# EAGLE library part RPI_COMPUTE_MODULE (library ICs)
Connector for the R Pi Compute Module, based on a DDR2 SO DIMM.
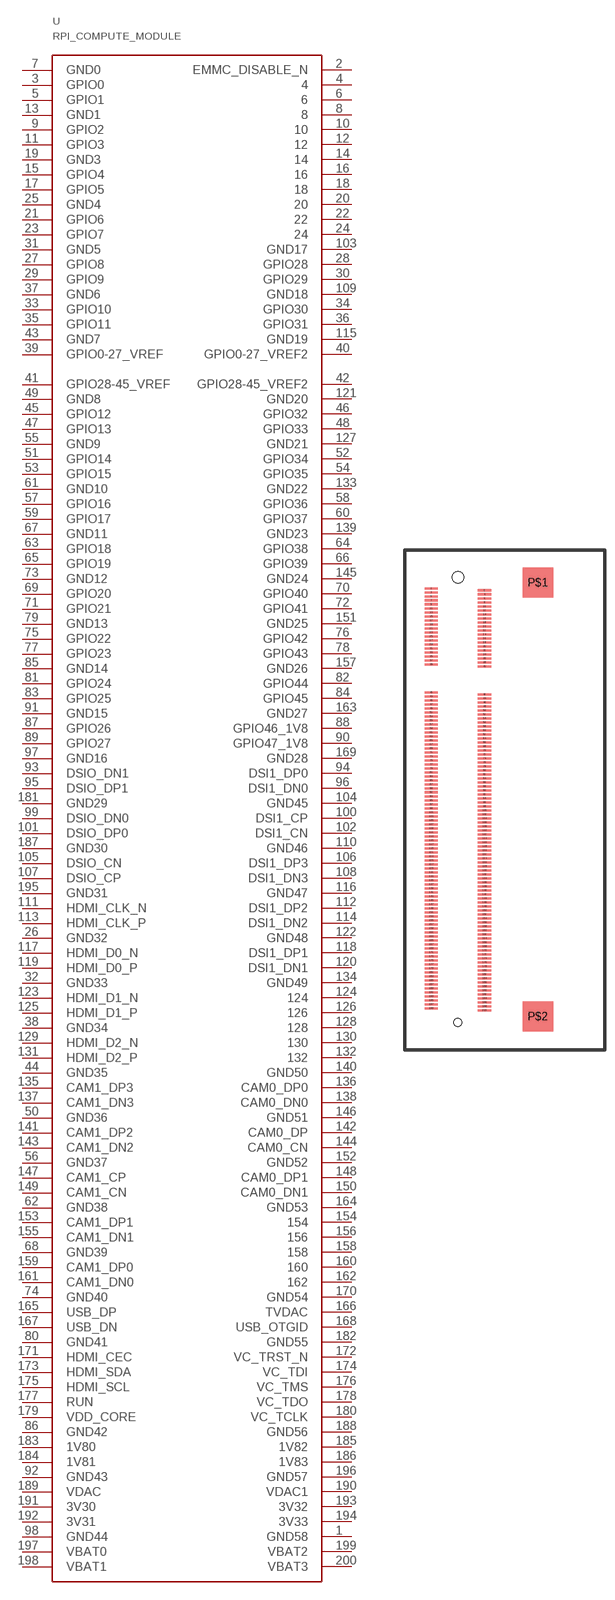
[diagram p29: symbol with the pads of TE_1473005-4; footprint TE_1473005-4]

Designator prefix U

## RPI_COMPUTE_MODULE  [TE_1473005-4]
1  GND58
2  EMMC_DISABLE_N
3  GPIO0
4  4
5  GPIO1
6  6
7  GND0
8  8
9  GPIO2
10  10
11  GPIO3
12  12
13  GND1
14  14
15  GPIO4
16  16
17  GPIO5
18  18
19  GND3
20  20
21  GPIO6
22  22
23  GPIO7
24  24
25  GND4
26  GND32
27  GPIO8
28  GPIO28
29  GPIO9
30  GPIO29
31  GND5
32  GND33
33  GPIO10
34  GPIO30
35  GPIO11
36  GPIO31
37  GND6
38  GND34
39  GPIO0-27_VREF
40  GPIO0-27_VREF2
41  GPIO28-45_VREF
42  GPIO28-45_VREF2
43  GND7
44  GND35
45  GPIO12
46  GPIO32
47  GPIO13
48  GPIO33
49  GND8
50  GND36
51  GPIO14
52  GPIO34
53  GPIO15
54  GPIO35
55  GND9
56  GND37
57  GPIO16
58  GPIO36
59  GPIO17
60  GPIO37
61  GND10
62  GND38
63  GPIO18
64  GPIO38
65  GPIO19
66  GPIO39
67  GND11
68  GND39
69  GPIO20
70  GPIO40
71  GPIO21
72  GPIO41
73  GND12
74  GND40
75  GPIO22
76  GPIO42
77  GPIO23
78  GPIO43
79  GND13
80  GND41
81  GPIO24
82  GPIO44
83  GPIO25
84  GPIO45
85  GND14
86  GND42
87  GPIO26
88  GPIO46_1V8
89  GPIO27
90  GPIO47_1V8
91  GND15
92  GND43
93  DSIO_DN1
94  DSI1_DP0
95  DSIO_DP1
96  DSI1_DN0
97  GND16
98  GND44
99  DSIO_DN0
100  DSI1_CP
101  DSIO_DP0
102  DSI1_CN
103  GND17
104  GND45
105  DSIO_CN
106  DSI1_DP3
107  DSIO_CP
108  DSI1_DN3
109  GND18
110  GND46
111  HDMI_CLK_N
112  DSI1_DP2
113  HDMI_CLK_P
114  DSI1_DN2
115  GND19
116  GND47
117  HDMI_D0_N
118  DSI1_DP1
119  HDMI_D0_P
120  DSI1_DN1
121  GND20
122  GND48
123  HDMI_D1_N
124  124
125  HDMI_D1_P
126  126
127  GND21
128  128
129  HDMI_D2_N
130  130
131  HDMI_D2_P
132  132
133  GND22
134  GND49
135  CAM1_DP3
136  CAM0_DP0
137  CAM1_DN3
138  CAM0_DN0
139  GND23
140  GND50
141  CAM1_DP2
142  CAM0_DP
143  CAM1_DN2
144  CAM0_CN
145  GND24
146  GND51
147  CAM1_CP
148  CAM0_DP1
149  CAM1_CN
150  CAM0_DN1
151  GND25
152  GND52
153  CAM1_DP1
154  154
155  CAM1_DN1
156  156
157  GND26
158  158
159  CAM1_DP0
160  160
161  CAM1_DN0
162  162
163  GND27
164  GND53
165  USB_DP
166  TVDAC
167  USB_DN
168  USB_OTGID
169  GND28
170  GND54
171  HDMI_CEC
172  VC_TRST_N
173  HDMI_SDA
174  VC_TDI
175  HDMI_SCL
176  VC_TMS
177  RUN
178  VC_TDO
179  VDD_CORE
180  VC_TCLK
181  GND29
182  GND55
183  1V80
184  1V81
185  1V82
186  1V83
187  GND30
188  GND56
189  VDAC
190  VDAC1
191  3V30
192  3V31
193  3V32
194  3V33
195  GND31
196  GND57
197  VBAT0
198  VBAT1
199  VBAT2
200  VBAT3

## Footprint TE_1473005-4 (pad centres in mm)
smd 2 x 0.35: 1 -4,13.2; 2 4,12.9; 3 -4,12.6; 4 4,12.3; 5 -4,12; 6 4,11.7; 7 -4,11.4; 8 4,11.1; 9 -4,10.8; 10 4,10.5; 11 -4,10.2; 12 4,9.9; 13 -4,9.6; 14 4,9.3; 15 -4,9; 16 4,8.7; 17 -4,8.4; 18 4,8.1; 19 -4,7.8; 20 4,7.5; 21 -4,7.2; 22 4,6.9; 23 -4,6.6; 24 4,6.3; 25 -4,6; 26 4,5.7; 27 -4,5.4; 28 4,5.1; 29 -4,4.8; 30 4,4.5; 31 -4,4.2; 32 4,3.9; 33 -4,3.6; 34 4,3.3; 35 -4,3; 36 4,2.7; 37 -4,2.4; 38 4,2.1; 39 -4,1.8; 40 4,1.5; 41 -4,-2.4; 42 4,-2.7; 43 -4,-3; 44 4,-3.3; 45 -4,-3.6; 46 4,-3.9; 47 -4,-4.2; 48 4,-4.5; 49 -4,-4.8; 50 4,-5.1; 51 -4,-5.4; 52 4,-5.7; 53 -4,-6; 54 4,-6.3; 55 -4,-6.6; 56 4,-6.9; 57 -4,-7.2; 58 4,-7.5; 59 -4,-7.8; 60 4,-8.1; 61 -4,-8.4; 62 4,-8.7; 63 -4,-9; 64 4,-9.3; 65 -4,-9.6; 66 4,-9.9; 67 -4,-10.2; 68 4,-10.5; 69 -4,-10.8; 70 4,-11.1; 71 -4,-11.4; 72 4,-11.7; 73 -4,-12; 74 4,-12.3; 75 -4,-12.6; 76 4,-12.9; 77 -4,-13.2; 78 4,-13.5; 79 -4,-13.8; 80 4,-14.1; 81 -4,-14.4; 82 4,-14.7; 83 -4,-15; 84 4,-15.3; 85 -4,-15.6; 86 4,-15.9; 87 -4,-16.2; 88 4,-16.5; 89 -4,-16.8; 90 4,-17.1; 91 -4,-17.4; 92 4,-17.7; 93 -4,-18; 94 4,-18.3; 95 -4,-18.6; 96 4,-18.9; 97 -4,-19.2; 98 4,-19.5; 99 -4,-19.8; 100 4,-20.1; 101 -4,-20.4; 102 4,-20.7; 103 -4,-21; 104 4,-21.3; 105 -4,-21.6; 106 4,-21.9; 107 -4,-22.2; 108 4,-22.5; 109 -4,-22.8; 110 4,-23.1; 111 -4,-23.4; 112 4,-23.7; 113 -4,-24; 114 4,-24.3; 115 -4,-24.6; 116 4,-24.9; 117 -4,-25.2; 118 4,-25.5; 119 -4,-25.8; 120 4,-26.1; 121 -4,-26.4; 122 4,-26.7; 123 -4,-27; 124 4,-27.3; 125 -4,-27.6; 126 4,-27.9; 127 -4,-28.2; 128 4,-28.5; 129 -4,-28.8; 130 4,-29.1; 131 -4,-29.4; 132 4,-29.7; 133 -4,-30; 134 4,-30.3; 135 -4,-30.6; 136 4,-30.9; 137 -4,-31.2; 138 4,-31.5; 139 -4,-31.8; 140 4,-32.1; 141 -4,-32.4; 142 4,-32.7; 143 -4,-33; 144 4,-33.3; 145 -4,-33.6; 146 4,-33.9; 147 -4,-34.2; 148 4,-34.5; 149 -4,-34.8; 150 4,-35.1; 151 -4,-35.4; 152 4,-35.7; 153 -4,-36; 154 4,-36.3; 155 -4,-36.6; 156 4,-36.9; 157 -4,-37.2; 158 4,-37.5; 159 -4,-37.8; 160 4,-38.1; 161 -4,-38.4; 162 4,-38.7; 163 -4,-39; 164 4,-39.3; 165 -4,-39.6; 166 4,-39.9; 167 -4,-40.2; 168 4,-40.5; 169 -4,-40.8; 170 4,-41.1; 171 -4,-41.4; 172 4,-41.7; 173 -4,-42; 174 4,-42.3; 175 -4,-42.6; 176 4,-42.9; 177 -4,-43.2; 178 4,-43.5; 179 -4,-43.8; 180 4,-44.1; 181 -4,-44.4; 182 4,-44.7; 183 -4,-45; 184 4,-45.3; 185 -4,-45.6; 186 4,-45.9; 187 -4,-46.2; 188 4,-46.5; 189 -4,-46.8; 190 4,-47.1; 191 -4,-47.4; 192 4,-47.7; 193 -4,-48; 194 4,-48.3; 195 -4,-48.6; 196 4,-48.9; 197 -4,-49.2; 198 4,-49.5; 199 -4,-49.8; 200 4,-50.1
smd 4.6 x 4.5: P$1 12,14.1; P$2 12,-51
hole 1.7 at 0,14.9
hole 1.2 at 0,-51.9